# Altium schematic symbol library ESP32-S2.SchLib: 1 symbol
Pins are listed as number, name and electrical type; pins without a type are passive.

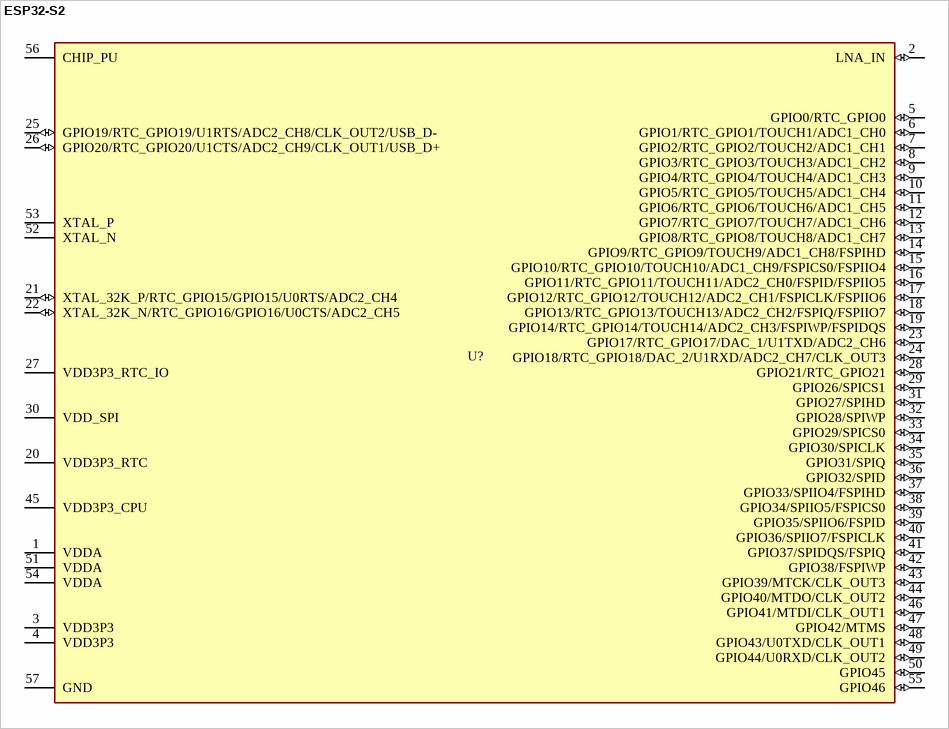
[diagram p0: symbol ESP32-S2]

## ESP32-S2
designator U?
pins: 1 VDDA (power), 2 LNA_IN (io), 3 VDD3P3 (power), 4 VDD3P3 (power), 5 GPIO0/RTC_GPIO0 (io), 6 GPIO1/RTC_GPIO1/TOUCH1/ADC1_CH0 (io), 7 GPIO2/RTC_GPIO2/TOUCH2/ADC1_CH1 (io), 8 GPIO3/RTC_GPIO3/TOUCH3/ADC1_CH2 (io), 9 GPIO4/RTC_GPIO4/TOUCH4/ADC1_CH3 (io), 10 GPIO5/RTC_GPIO5/TOUCH5/ADC1_CH4 (io), 11 GPIO6/RTC_GPIO6/TOUCH6/ADC1_CH5 (io), 12 GPIO7/RTC_GPIO7/TOUCH7/ADC1_CH6 (io), 13 GPIO8/RTC_GPIO8/TOUCH8/ADC1_CH7 (io), 14 GPIO9/RTC_GPIO9/TOUCH9/ADC1_CH8/FSPIHD (io), 15 GPIO10/RTC_GPIO10/TOUCH10/ADC1_CH9/FSPICS0/FSPIIO4 (io), 16 GPIO11/RTC_GPIO11/TOUCH11/ADC2_CH0/FSPID/FSPIIO5 (io), 17 GPIO12/RTC_GPIO12/TOUCH12/ADC2_CH1/FSPICLK/FSPIIO6 (io), 18 GPIO13/RTC_GPIO13/TOUCH13/ADC2_CH2/FSPIQ/FSPIIO7 (io), 19 GPIO14/RTC_GPIO14/TOUCH14/ADC2_CH3/FSPIWP/FSPIDQS (io), 20 VDD3P3_RTC (power), 21 XTAL_32K_P/RTC_GPIO15/GPIO15/U0RTS/ADC2_CH4 (io), 22 XTAL_32K_N/RTC_GPIO16/GPIO16/U0CTS/ADC2_CH5 (io), 23 GPIO17/RTC_GPIO17/DAC_1/U1TXD/ADC2_CH6 (io), 24 GPIO18/RTC_GPIO18/DAC_2/U1RXD/ADC2_CH7/CLK_OUT3 (io), 25 GPIO19/RTC_GPIO19/U1RTS/ADC2_CH8/CLK_OUT2/USB_D- (io), 26 GPIO20/RTC_GPIO20/U1CTS/ADC2_CH9/CLK_OUT1/USB_D+ (io), 27 VDD3P3_RTC_IO, 28 GPIO21/RTC_GPIO21 (io), 29 GPIO26/SPICS1 (io), 30 VDD_SPI, 31 GPIO27/SPIHD (io), 32 GPIO28/SPIWP (io), 33 GPIO29/SPICS0 (io), 34 GPIO30/SPICLK (io), 35 GPIO31/SPIQ (io), 36 GPIO32/SPID (io), 37 GPIO33/SPIIO4/FSPIHD (io), 38 GPIO34/SPIIO5/FSPICS0 (io), 39 GPIO35/SPIIO6/FSPID (io), 40 GPIO36/SPIIO7/FSPICLK (io), 41 GPIO37/SPIDQS/FSPIQ (io), 42 GPIO38/FSPIWP (io), 43 GPIO39/MTCK/CLK_OUT3 (io), 44 GPIO40/MTDO/CLK_OUT2 (io), 45 VDD3P3_CPU, 46 GPIO41/MTDI/CLK_OUT1 (io), 47 GPIO42/MTMS (io), 48 GPIO43/U0TXD/CLK_OUT1 (io), 49 GPIO44/U0RXD/CLK_OUT2 (io), 50 GPIO45 (io), 51 VDDA, 52 XTAL_N, 53 XTAL_P, 54 VDDA, 55 GPIO46 (io), 56 CHIP_PU, 57 GND